# Altium footprint library BLDC_Motor_Driver.PcbLib: 122 footprints (part 3 of 8)
Each footprint in its own frame and in the unit in brackets; x right, y up, seen from the top. Pads: shape width x height; smd on the part's side, far side on the other; paste and mask are expansions set on the pad; w line width, h text height; cw(c..) or ccw(c..) is an arc to the next point about the centre after c.
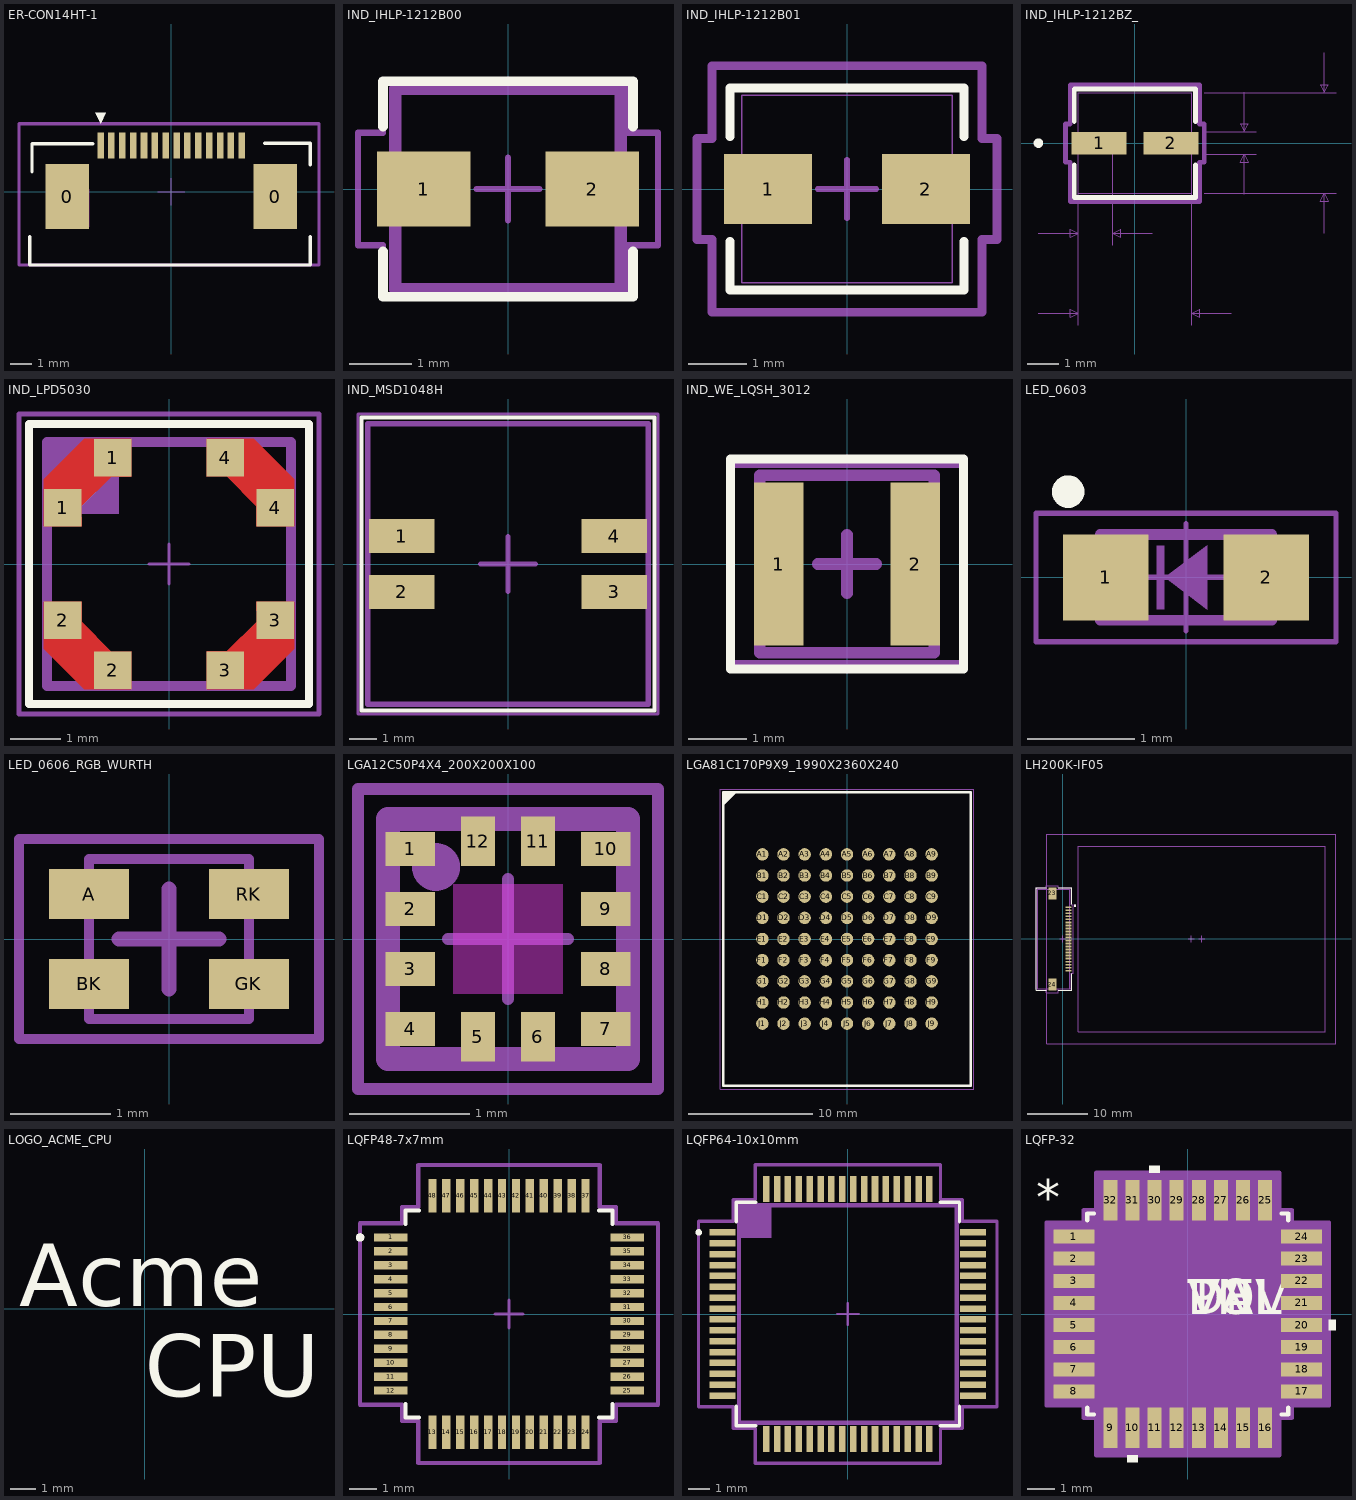
[diagram p2: the footprints below, top view; thin cyan lines are the x and y axes]

## ER-CON14HT-1 [mm] "CONN FFC TOP 14POS 0.50MM R/A"
height 2
pads (16):
  rect 2x3 smd: 0(-4.79,-0.225) 0(4.79,-0.225)
  rect 0.3x1.2 smd mask+0.05: 1(-3.25,2.125) 2(-2.75,2.125) 3(-2.25,2.125) 4(-1.75,2.125) 5(-1.25,2.125) 6(-0.75,2.125) 7(-0.25,2.125) 8(0.25,2.125) 9(0.75,2.125) 10(1.25,2.125) 11(1.75,2.125) 12(2.25,2.125) 13(2.75,2.125) 14(3.25,2.125)
Top Overlay:
  region: -3.5,3.625 -3,3.625 -3.25,3.125
  lines w0.152: -6.5,-2.075 -6.5,-3.375 6.4,-3.375 6.4,-2.075 ; -6.4,0.925 -6.4,2.2 -3.6,2.2 ; 4.3,2.225 6.4,2.225 6.4,1.225
Keep-Out Layer:
  rectangle: -4.15,-1.625 -3.75,0.125
Mechanical 4:
  lines w0.152: -7,-3.375 6.8,-3.375 6.8,3.125 -7,3.125 -7,-3.375
  text ".Designator" at -1,-0.5 h0.5
Courtyard TOP:
  lines w0.051: -0.625,0 0.625,0 ; 0,-0.625 0,0.625 ; -7,-3.375 -7,3.125 6.8,3.125 6.8,-3.375 -7,-3.375
3D body "c-1-1734839-4-c-3d.stp": height 2, standoff -0.05, extent -6.215,-3.01 6.215,2.1

## IND_IHLP-1212B00 [mm] "1µH Shielded Molded Inductor 5A 24mOhm Max Nonstandard"
height 2
pads (2):
  rect 1.5x1.2 smd: 1(-1.35,0) 2(1.35,0)
Top Overlay:
  lines w0.152: -2,-1 -2,-1.727 2,-1.727 2,-1 ; -2,1 -2,1.727 2,1.727 2,1
TOP ASSY:
  lines w0.2: -1.803,-1.6 -1.803,1.6 1.803,1.6 1.803,-1.6 -1.803,-1.6
  text "'.Designator'" at -1.016,-0.254 h0.5
Courtyard TOP:
  lines w0.1: -0.5,0 0.5,0 ; 0,-0.5 0,0.5 ; -2.4,-0.9 -2,-0.9 -2,-1.702 1.905,-1.702 1.905,-0.9 2.4,-0.9 2.4,0.9 1.905,0.9 1.905,1.702 -2,1.702 -2,0.9 -2.4,0.9 -2.4,-0.9
3D body "IND_IHLP-1212BZ_VIS.step": height 2.06, standoff 0, extent -1.803,-1.6 1.803,1.6

## IND_IHLP-1212B01 [mm]
pads (2):
  rect 1.5x1.2 smd: 1(-1.35,0) 2(1.35,0)
Top Overlay:
  lines w0.152: -2,-0.9 -2,-1.727 2,-1.727 2,-0.9 ; -2,0.9 -2,1.727 2,1.727 2,0.9
3D Body TOP:
  circle w0: c-1.295,0 r0.076
  lines w0.025: -1.803,-1.6 -1.803,1.6 1.803,1.6 1.803,-1.6 -1.803,-1.6
Courtyard TOP:
  lines w0.1: -0.5,0 0.5,0 ; 0,-0.5 0,0.5
  lines w0.152: -2.565,-0.864 -2.311,-0.864 -2.311,-2.108 2.311,-2.108 2.311,-0.864 2.565,-0.864 2.565,0.864 2.311,0.864 2.311,2.108 -2.311,2.108 -2.311,0.864 -2.565,0.864 -2.565,-0.864
3D body "IND_IHLP-1212BZ_VIS-L.step": height 2.06, standoff 0, extent -1.803,-1.6 1.803,1.6

## IND_IHLP-1212BZ_ [mil]
pads (2):
  rect 69x28 smd paste+0 mask+0: 1(-45,0) 2(45,0)
Top Overlay:
  circle w6: c-121,0 r3
  lines w6: -76,-27.1 -76,-68 76,-68 76,-27.1 ; -76,27.1 -76,68 76,68 76,27.1
Mechanical 7:
  lines w1: -121,-213 -71,-213 ; -121,-113 -71,-113 ; -71,-228 -71,0 -71,-128 ; -28,-128 -28,0 ; 22,-113 -28,-113 ; 71,-228 71,0 ; 87,-63 252,-63 ; 87,-14 152,-14 ; 87,14 152,14 ; 87,63 252,63 ; 121,-213 71,-213 ; 137,-64 137,-14 ; 137,64 137,14 ; 237,-113 237,-63 ; 237,113 237,63 ; -71,-213 -81,-218 -81,-208 -71,-213 ; -71,-113 -81,-118 -81,-108 -71,-113 ; -28,-113 -18,-118 -18,-108 -28,-113 ; 71,-213 81,-218 81,-208 71,-213 ; 137,-14 142,-24 132,-24 137,-14 ; 137,14 142,24 132,24 137,14 ; 237,-63 242,-73 232,-73 237,-63 ; 237,63 242,73 232,73 237,63
  text "0.043in/1.092mm" at -143.25,-158 h25
  text "0.142in/3.607mm" at -93.75,-258 h25
  text "0.126in/3.2mm" at 257,-12.5 h25
  text "0.028in/0.711mm" at 157,-12.5 h25
  text "Alt 2 Padstyle: OX90Y60D30P" at -337.5,-488 h50
  text "Alt 1 Padstyle: OX60Y90D30P" at -337.5,-413 h50
  text "Default Padstyle: RX69Y28D0T" at -350,-338 h50
3D Body TOP:
  circle w0: c-51,0 r3
  lines w1: -71,-63 -71,63 71,63 71,-63 -71,-63
Courtyard TOP:
  lines w6: -87,-24 -81,-24 -81,-73 81,-73 81,-24 87,-24 87,24 81,24 81,73 -81,73 -81,24 -87,24 -87,-24
3D body "IND_IHLP-1212BZ_VIS-M.step": height 80.98, standoff 0, extent -70.98,-62.99 70.99,63

## IND_LPD5030 [mm] "Shielded Coupled Inductors"
height 3
pads (8):
  rect 0.75x0.75 smd: 1(-2.125,1.125) 1(-1.125,2.125) 2(-2.125,-1.125) 2(-1.125,-2.125) 3(1.125,-2.125) 3(2.125,-1.125) 4(1.125,2.125) 4(2.125,1.125)
Top Layer:
  region: -0.75,-1.75 -0.75,-2.5 -1.7,-2.5 -2.5,-1.7 -2.5,-0.75 -1.75,-0.75 -1.75,-1.151 -1.151,-1.75
  region: 1.75,-0.75 2.5,-0.75 2.5,-1.7 1.7,-2.5 0.75,-2.5 0.75,-1.75 1.151,-1.75 1.75,-1.151
  region: 0.75,1.75 0.75,2.5 1.7,2.5 2.5,1.7 2.5,0.75 1.75,0.75 1.75,1.151 1.151,1.75
  region: -1.75,0.75 -2.5,0.75 -2.5,1.7 -1.7,2.5 -0.75,2.5 -0.75,1.75 -1.151,1.75 -1.75,1.151
Top Overlay:
  lines w0.152: -2.8,-2.8 2.8,-2.8 2.8,2.8 -2.8,2.8 -2.8,-2.8
  text "." at -3.4,2.1 h1
Top Paste:
  region: -1.75,0.75 -2.5,0.75 -2.5,1.7 -1.7,2.5 -0.75,2.5 -0.75,1.75 -1.151,1.75 -1.75,1.151
  region: 0.75,1.75 0.75,2.5 1.7,2.5 2.5,1.7 2.5,0.75 1.75,0.75 1.75,1.151 1.151,1.75
  region: 1.75,-0.75 2.5,-0.75 2.5,-1.7 1.7,-2.5 0.75,-2.5 0.75,-1.75 1.151,-1.75 1.75,-1.151
  region: -0.75,-1.75 -0.75,-2.5 -1.7,-2.5 -2.5,-1.7 -2.5,-0.75 -1.75,-0.75 -1.75,-1.151 -1.151,-1.75
Top Solder:
  region: -0.65,-1.65 -0.65,-2.6 -1.7,-2.6 -2.6,-1.7 -2.6,-0.65 -1.65,-0.65 -1.65,-1.15 -1.15,-1.65
  region: 1.65,-0.65 2.6,-0.65 2.6,-1.7 1.7,-2.6 0.65,-2.6 0.65,-1.65 1.15,-1.65 1.65,-1.15
  region: 0.65,1.65 0.65,2.6 1.7,2.6 2.6,1.7 2.6,0.65 1.65,0.65 1.65,1.15 1.15,1.65
  region: -1.65,0.65 -2.6,0.65 -2.6,1.7 -1.7,2.6 -0.65,2.6 -0.65,1.65 -1.15,1.65 -1.65,1.15
TOP ASSY:
  rectangle: -2.44,1 -1,2.44
  lines w0.2: -2.44,-2.44 2.44,-2.44 2.44,2.44 -2.44,2.44 -2.44,-2.44
  text "'.Designator'" at -1,0 h0.5
Courtyard TOP:
  lines w0.051: -0.4,0 0.4,0 ; 0,-0.4 0,0.4
  lines w0.1: -3,-3 -3,3 3,3 3,-3 -3,-3
3D body "LPD5030.STEP": height 2.98, standoff 0, extent -2.44,-2.44 2.44,2.44

## IND_MSD1048H [mm] "Shielded Coupled Inductors"
height 3
pads (4):
  rect 2.4x1.25 smd: 1(-3.9,1.025) 2(-3.9,-1.025) 3(3.9,-1.025) 4(3.9,1.025)
Top Overlay:
  lines w0.152: -5.375,-5.375 5.375,-5.375 5.375,5.375 -5.375,5.375 -5.375,-5.375
TOP ASSY:
  lines w0.2: -5.15,-5.15 5.15,-5.15 5.15,5.15 -5.15,5.15 -5.15,-5.15
  text "'.Designator'" at -2,0.5 h0.5
Courtyard TOP:
  lines w0.1: -5.5,-5.5 5.5,-5.5 5.5,5.5 -5.5,5.5 -5.5,-5.5
  lines w0.2: -1,0 1,0 ; 0,-1 0,1
3D body "MSD1048H.STEP": height 5.1, standoff 0.1, extent -5.15,-5.15 5.15,5.15

## IND_WE_LQSH_3012 [mm] "FIXED IND 1UH 2.4A 54 MOHM MAX"
height 1.2
pads (2):
  rect 0.85x2.8 smd: 1(-1.175,0) 2(1.175,0)
Top Overlay:
  lines w0.152: -2,-1.8 2,-1.8 2,1.8 -2,1.8 -2,-1.8
TOP ASSY:
  lines w0.2: -1.5,-1.525 1.5,-1.525 1.5,1.525 -1.5,1.525 -1.5,-1.525
  text "'.Designator'" at -1.3,-0.3 h0.5
Courtyard TOP:
  lines w0.1: -2,-1.7 2,-1.7 2,1.7 -2,1.7 -2,-1.7
  lines w0.2: -0.5,0 0.5,0 ; 0,-0.5 0,0.5
3D body "74405031010_Download_STP_WE-LQSH-3012_rev1.stp": height 1.25, standoff 0.05, extent -1.5,-1.518 1.5,1.525

## LED_0603 [mm] "LED Indication - Discrete 0603"
height 0.55
pads (2):
  rect 0.8x0.8 smd: 1(-0.75,0) 2(0.75,0)
Top Overlay:
  circle w0.203: c-1.1,0.8 r0.05
TOP ASSY:
  rectangle: -0.275,-0.3 -0.2,0.3
  region: -0.2,0 0.2,0.3 0.2,-0.3
  lines w0.1: -0.8,-0.4 0.8,-0.4 0.8,0.4 -0.8,0.4 -0.8,-0.4
  text "'.Designator'" at -0.9,0.7 h0.5
Courtyard TOP:
  lines w0.05: -0.5,0 0.5,0 ; 0,-0.5 0,0.5 ; -1.4,-0.6 -1.4,0.6 1.4,0.6 1.4,-0.6 -1.4,-0.6
3D body "LTST-C191KGKT--3DModel-STEP-56544.STEP": height 0.55, standoff 0, extent -0.8,-0.4 0.8,0.4

## LED_0606_RGB_WURTH [mm] "Chip; Body 1.6 x 1.6 mm (LxW typ) WURTH"
height 0.55
pads (4):
  rect 0.8x0.5 smd: A(-0.8,0.45) BK(-0.8,-0.45) GK(0.8,-0.45) RK(0.8,0.45)
TOP ASSY:
  lines w0.1: -0.8,-0.8 -0.8,0.8 0.8,0.8 0.8,-0.8 -0.8,-0.8
  text "." at -1.5,0.9 h0.5
  text ".Designator" at -1,1.1 h0.5
Courtyard TOP:
  lines w0.1: -1.5,-1 1.5,-1 1.5,1 -1.5,1 -1.5,-1
  lines w0.152: -0.5,0 0.5,0 ; 0,-0.5 0,0.5
3D body "STEP-WL-SFCW-0606-rev1.stp": height 0.4, standoff 0, extent -0.8,-0.8 0.8,0.8

## LGA12C50P4X4_200X200X100 [mm] "LGA, 12-Leads, Body 2.00x2.00mmx1.00mm, Pitch 0.50mm"
height 1
pads (12):
  rect 0.41x0.28 smd mask+0.05: 1(-0.815,0.75) 2(-0.815,0.25) 3(-0.815,-0.25) 4(-0.815,-0.75) 7(0.815,-0.75) 8(0.815,-0.25) 9(0.815,0.25) 10(0.815,0.75)
  rect 0.28x0.41 smd mask+0.05: 5(-0.25,-0.815) 6(0.25,-0.815) 11(0.25,0.815) 12(-0.25,0.815)
Top Layer keep-out:
  rectangle: -0.457,-0.457 0.457,0.457
TOP ASSY:
  circle w0.2: c-0.6,0.6 r0.1
  lines w0.2: -1,-1 -1,1 1,1 1,-1 -1,-1
  text "'.Designator'" at -0.7,-0.3 h0.5
Courtyard TOP:
  lines w0.1: -0.5,0 0.5,0 ; 0,-0.5 0,0.5 ; -1.25,-1.25 -1.25,1.25 1.25,1.25 1.25,-1.25 -1.25,-1.25
3D body "LGA12C50P4X4_200X200X100.step": height 1, standoff 0, extent -1.038,-1.038 1.038,1.038

## LGA81C170P9X9_1990X2360X240 [mm] "LGA, 81-Leads, Body 19.90x23.60mmx2.40mm, Pitch 1.70mm"
height 2.4
pads (81):
  round 1 smd: A1(-6.8,6.8) A2(-5.1,6.8) A3(-3.4,6.8) A4(-1.7,6.8) A5(0,6.8) A6(1.7,6.8) A7(3.4,6.8) A8(5.1,6.8) A9(6.8,6.8) B1(-6.8,5.1) B2(-5.1,5.1) B3(-3.4,5.1) B4(-1.7,5.1) B5(0,5.1) B6(1.7,5.1) B7(3.4,5.1) B8(5.1,5.1) B9(6.8,5.1) C1(-6.8,3.4) C2(-5.1,3.4) C3(-3.4,3.4) C4(-1.7,3.4) C5(0,3.4) C6(1.7,3.4) C7(3.4,3.4) C8(5.1,3.4) C9(6.8,3.4) D1(-6.8,1.7) D2(-5.1,1.7) D3(-3.4,1.7) D4(-1.7,1.7) D5(0,1.7) D6(1.7,1.7) D7(3.4,1.7) D8(5.1,1.7) D9(6.8,1.7) E1(-6.8,0) E2(-5.1,0) E3(-3.4,0) E4(-1.7,0) E5(0,0) E6(1.7,0) E7(3.4,0) E8(5.1,0) E9(6.8,0) F1(-6.8,-1.7) F2(-5.1,-1.7) F3(-3.4,-1.7) F4(-1.7,-1.7) F5(0,-1.7) F6(1.7,-1.7) F7(3.4,-1.7) F8(5.1,-1.7) F9(6.8,-1.7) G1(-6.8,-3.4) G2(-5.1,-3.4) G3(-3.4,-3.4) G4(-1.7,-3.4) G5(0,-3.4) G6(1.7,-3.4) G7(3.4,-3.4) G8(5.1,-3.4) G9(6.8,-3.4) H1(-6.8,-5.1) H2(-5.1,-5.1) H3(-3.4,-5.1) H4(-1.7,-5.1) H5(0,-5.1) H6(1.7,-5.1) H7(3.4,-5.1) H8(5.1,-5.1) H9(6.8,-5.1) J1(-6.8,-6.8) J2(-5.1,-6.8) J3(-3.4,-6.8) J4(-1.7,-6.8) J5(0,-6.8) J6(1.7,-6.8) J7(3.4,-6.8) J8(5.1,-6.8) J9(6.8,-6.8)
Top Overlay:
  region: -8.95,11.8 -9.95,10.8 -9.95,11.8
  lines w0.2: -9.95,10.8 -8.95,11.8 ; -9.95,-11.8 -9.95,11.8 9.95,11.8 9.95,-11.8 -9.95,-11.8
3D Body TOP:
  lines w0.1: -9.95,-11.8 -9.95,11.8 9.95,11.8 9.95,-11.8 -9.95,-11.8
Courtyard TOP:
  lines w0.05: -10.2,-12.05 -10.2,12.05 10.2,12.05 10.2,-12.05 -10.2,-12.05
  lines w0.1: -0.5,0 0.5,0 ; 0,-0.5 0,0.5
3D body "LGA81C170P9X9_1990X2360X240.step": height 2.4, standoff 0, extent -10.025,-11.875 10.025,11.875

## LH200K-IF05 [mm] "TFT LCD MODULE"
height 7
pads (24):
  rect 1x0.3 smd mask+0.05: 1(1,-5.25) 2(1,-4.75) 3(1,-4.25) 4(1,-3.75) 5(1,-3.25) 6(1,-2.75) 7(1,-2.25) 8(1,-1.75) 9(1,-1.25) 10(1,-0.75) 11(1,-0.25) 12(1,0.25) 13(1,0.75) 14(1,1.25) 15(1,1.75) 16(1,2.25) 17(1,2.75) 18(1,3.25) 19(1,3.75) 20(1,4.25) 21(1,4.75) 22(1,5.25)
  rect 1.3x2 smd mask+0.05: 23(-1.7,7.55) 24(-1.7,-7.55)
Top Overlay:
  circle w0.2: c2.046,5.5 r0.1
  lines w0.152: -2.706,-8.5 -4.4,-8.5 -4.4,8.5 -2.706,8.5 ; -0.694,-8.5 1.5,-8.5 1.5,-5.761 ; -0.694,8.5 1.5,8.5 1.5,5.761
TOP ASSY:
  circle w0.2: c2.046,5.5 r0.1
  lines w0.2: -4.15,-8.25 -4.15,8.25 1.15,8.25 1.15,-8.25 -4.15,-8.25
  text "1" at 1.8,-5.1 h1
  text "22" at 1.8,6.5 h1
Courtyard TOP:
  lines w0.1: -0.5,0 0.5,0 ; 0,-0.5 0,0.5
  lines w0.152: -4.363,-8.204 -4.363,8.5 -2.7,8.5 -2.7,8.807 -0.7,8.807 -0.7,8.5 1.454,8.5 1.454,5.682 1.775,5.682 1.775,-5.682 1.454,-5.682 1.454,-8.204 -0.7,-8.204 -0.7,-8.9 -2.7,-8.9 -2.7,-8.204 -4.363,-8.204
BOT ASSY:
  lines w0.2: 20.8,0 21.8,0 ; 21.3,-0.5 21.3,0.5 ; 22.5,0 23.5,0 ; 23,-0.5 23,0.5 ; -2.6,-17.3 45.2,-17.3 45.2,17.3 -2.6,17.3 -2.6,-17.3 ; 2.6,-15.3 43.4,-15.3 43.4,15.3 2.6,15.3 2.6,-15.3
  text "Center of the panel" at 19.6,-9.1 h1
  text "Center of the screen" at 23.6,-8.9 h1
  text "Top Left Corner" at 41.8,-14.8 h1
3D body "5051102291.stp": height 1.88, standoff -0.02, extent -4.154,-8.25 1.146,8.25
3D body: height -6, standoff -8, extent -2.6,-17.3 45.2,17.3

## LOGO_ACME_CPU [mm]
Top Overlay:
  text "Acme" at -5,0.1 h2.5
  text "CPU" at 0,-3.5 h2.5

## LQFP48-7x7mm [mm]
pads (48):
  rect 1.2x0.3 smd: 1(-4.25,2.75) 2(-4.25,2.25) 3(-4.25,1.75) 4(-4.25,1.25) 5(-4.25,0.75) 6(-4.25,0.25) 7(-4.25,-0.25) 8(-4.25,-0.75) 9(-4.25,-1.25) 10(-4.25,-1.75) 11(-4.25,-2.25) 12(-4.25,-2.75) 25(4.25,-2.75) 26(4.25,-2.25) 27(4.25,-1.75) 28(4.25,-1.25) 29(4.25,-0.75) 30(4.25,-0.25) 31(4.25,0.25) 32(4.25,0.75) 33(4.25,1.25) 34(4.25,1.75) 35(4.25,2.25) 36(4.25,2.75)
  rect 0.3x1.2 smd: 13(-2.75,-4.25) 14(-2.25,-4.25) 15(-1.75,-4.25) 16(-1.25,-4.25) 17(-0.75,-4.25) 18(-0.25,-4.25) 19(0.25,-4.25) 20(0.75,-4.25) 21(1.25,-4.25) 22(1.75,-4.25) 23(2.25,-4.25) 24(2.75,-4.25) 37(2.75,4.25) 38(2.25,4.25) 39(1.75,4.25) 40(1.25,4.25) 41(0.75,4.25) 42(0.25,4.25) 43(-0.25,4.25) 44(-0.75,4.25) 45(-1.25,4.25) 46(-1.75,4.25) 47(-2.25,4.25) 48(-2.75,4.25)
Top Overlay:
  circle w0.152: c-5.351,2.75 r0.076
  lines w0.152: -3.721,-3.235 -3.721,-3.721 -3.235,-3.721 ; -3.721,3.235 -3.721,3.721 -3.235,3.721 ; 3.235,-3.721 3.721,-3.721 3.721,-3.235 ; 3.235,3.721 3.721,3.721 3.721,3.235
Courtyard TOP:
  lines w0.1: -0.5,0 0.5,0 ; 0,-0.5 0,0.5
  lines w0.152: -5.355,-3.258 -3.848,-3.258 -3.848,-3.848 -3.258,-3.848 -3.258,-5.355 3.258,-5.355 3.258,-3.848 3.848,-3.848 3.848,-3.258 5.355,-3.258 5.355,3.258 3.848,3.258 3.848,3.848 3.258,3.848 3.258,5.355 -3.258,5.355 -3.258,3.848 -3.848,3.848 -3.848,3.258 -5.355,3.258 -5.355,-3.258
3D body "LQFP48-7x7mm.stp": height 1.6, standoff 0, extent -4.497,-4.497 4.497,4.497

## LQFP64-10x10mm [mm]
pads (64):
  rect 1.2x0.3 smd: 1(-5.75,3.75) 2(-5.75,3.25) 3(-5.75,2.75) 4(-5.75,2.25) 5(-5.75,1.75) 6(-5.75,1.25) 7(-5.75,0.75) 8(-5.75,0.25) 9(-5.75,-0.25) 10(-5.75,-0.75) 11(-5.75,-1.25) 12(-5.75,-1.75) 13(-5.75,-2.25) 14(-5.75,-2.75) 15(-5.75,-3.25) 16(-5.75,-3.75) 33(5.75,-3.75) 34(5.75,-3.25) 35(5.75,-2.75) 36(5.75,-2.25) 37(5.75,-1.75) 38(5.75,-1.25) 39(5.75,-0.75) 40(5.75,-0.25) 41(5.75,0.25) 42(5.75,0.75) 43(5.75,1.25) 44(5.75,1.75) 45(5.75,2.25) 46(5.75,2.75) 47(5.75,3.25) 48(5.75,3.75)
  rect 0.3x1.2 smd: 17(-3.75,-5.75) 18(-3.25,-5.75) 19(-2.75,-5.75) 20(-2.25,-5.75) 21(-1.75,-5.75) 22(-1.25,-5.75) 23(-0.75,-5.75) 24(-0.25,-5.75) 25(0.25,-5.75) 26(0.75,-5.75) 27(1.25,-5.75) 28(1.75,-5.75) 29(2.25,-5.75) 30(2.75,-5.75) 31(3.25,-5.75) 32(3.75,-5.75) 49(3.75,5.75) 50(3.25,5.75) 51(2.75,5.75) 52(2.25,5.75) 53(1.75,5.75) 54(1.25,5.75) 55(0.75,5.75) 56(0.25,5.75) 57(-0.25,5.75) 58(-0.75,5.75) 59(-1.25,5.75) 60(-1.75,5.75) 61(-2.25,5.75) 62(-2.75,5.75) 63(-3.25,5.75) 64(-3.75,5.75)
Top Overlay:
  circle w0.152: c-6.851,3.75 r0.076
  lines w0.152: -5.131,-4.234 -5.131,-5.131 -4.234,-5.131 ; -5.131,4.234 -5.131,5.131 -4.234,5.131 ; 4.234,-5.131 5.131,-5.131 5.131,-4.234 ; 4.234,5.131 5.131,5.131 5.131,4.234
TOP ASSY:
  rectangle: -5,3.5 -3.5,5
  lines w0.2: -5,-5 -5,5 5,5 5,-5 -5,-5
  text "'.Designator'" at -2.3,0.5 h0.5
Courtyard TOP:
  lines w0.1: -0.5,0 0.5,0 ; 0,-0.5 0,0.5
  lines w0.152: -6.855,-4.258 -6.855,4.258 -5.258,4.258 -5.258,5.258 -4.258,5.258 -4.258,6.855 4.258,6.855 4.258,5.258 5.258,5.258 5.258,4.258 6.855,4.258 6.855,-4.258 5.258,-4.258 5.258,-5.258 4.258,-5.258 4.258,-6.855 -4.258,-6.855 -4.258,-5.258 -5.258,-5.258 -5.258,-4.258 -6.855,-4.258
3D body "LQFP64-10x10mm.stp": height 1.6, standoff 0, extent -5.997,-5.997 5.997,5.997

## LQFP-32 [mil]
pads (32):
  rect 58x20 smd paste+0 mask+0: 1(-162,110.24) 2(-162,78.74) 3(-162,47.24) 4(-162,15.75) 5(-162,-15.75) 6(-162,-47.24) 7(-162,-78.74) 8(-162,-110.24) 17(162,-110.24) 18(162,-78.74) 19(162,-47.24) 20(162,-15.75) 21(162,15.75) 22(162,47.24) 23(162,78.74) 24(162,110.24)
  rect 20x58 smd paste+0 mask+0: 9(-110.24,-162) 10(-78.74,-162) 11(-47.24,-162) 12(-15.75,-162) 13(15.75,-162) 14(47.24,-162) 15(78.74,-162) 16(110.24,-162) 25(110.24,162) 26(78.74,162) 27(47.24,162) 28(15.75,162) 29(-15.75,162) 30(-47.24,162) 31(-78.74,162) 32(-110.24,162)
Top Overlay:
  region: -39.74,201 -54.74,201 -54.74,211 -39.74,211
  region: 201,-8.25 211,-8.25 211,-23.25 201,-23.25
  region: -71.24,-201 -86.24,-201 -86.24,-211 -71.24,-211
  lines w6: -143,-133.34 -143,-143 -133.34,-143 ; -143,133.34 -143,143 -133.34,143 ; 133.34,-143 143,-143 143,-133.34 ; 133.34,143 143,143 143,133.34
  text "TOL" at 0,0 h50
  text "VAL" at 0,0 h50
  text "DEV" at 0,0 h50
  text "PN" at 0,0 h50
  text "*" at -216,140.98 h50
3D Body TOP:
  text "RefDes2" at 0,0 h50
  text "*" at -123,125.98 h50
Courtyard TOP:
  region: -130.24,-148 -148,-148 -148,-130.24 -201,-130.24 -201,130.24 -148,130.24 -148,148 -130.24,148 -130.24,201 130.24,201 130.24,148 148,148 148,130.24 201,130.24 201,-130.24 148,-130.24 148,-148 130.24,-148 130.24,-201 -130.24,-201
  lines w6: -201,-130.24 -201,130.24 -148,130.24 -148,148 -130.24,148 -130.24,201 130.24,201 130.24,148 148,148 148,130.24 201,130.24 201,-130.24 148,-130.24 148,-148 130.24,-148 130.24,-201 -130.24,-201 -130.24,-148 -148,-148 -148,-130.24 -201,-130.24
Multi-Layer:
  text "Copyright (C) 2018 Accelerated Designs. All rights reserved" at 0,0 h1
3D body "LQFP-32.stp": height 63.1, standoff 0, extent -177,-177 177,177